# Altium footprint library PcbLib1.PcbLib: 15 footprints
Each footprint in its own frame and in the unit in brackets; x right, y up, seen from the top. Pads: shape width x height; smd on the part's side, far side on the other; paste and mask are expansions set on the pad; w line width, h text height; cw(c..) or ccw(c..) is an arc to the next point about the centre after c.
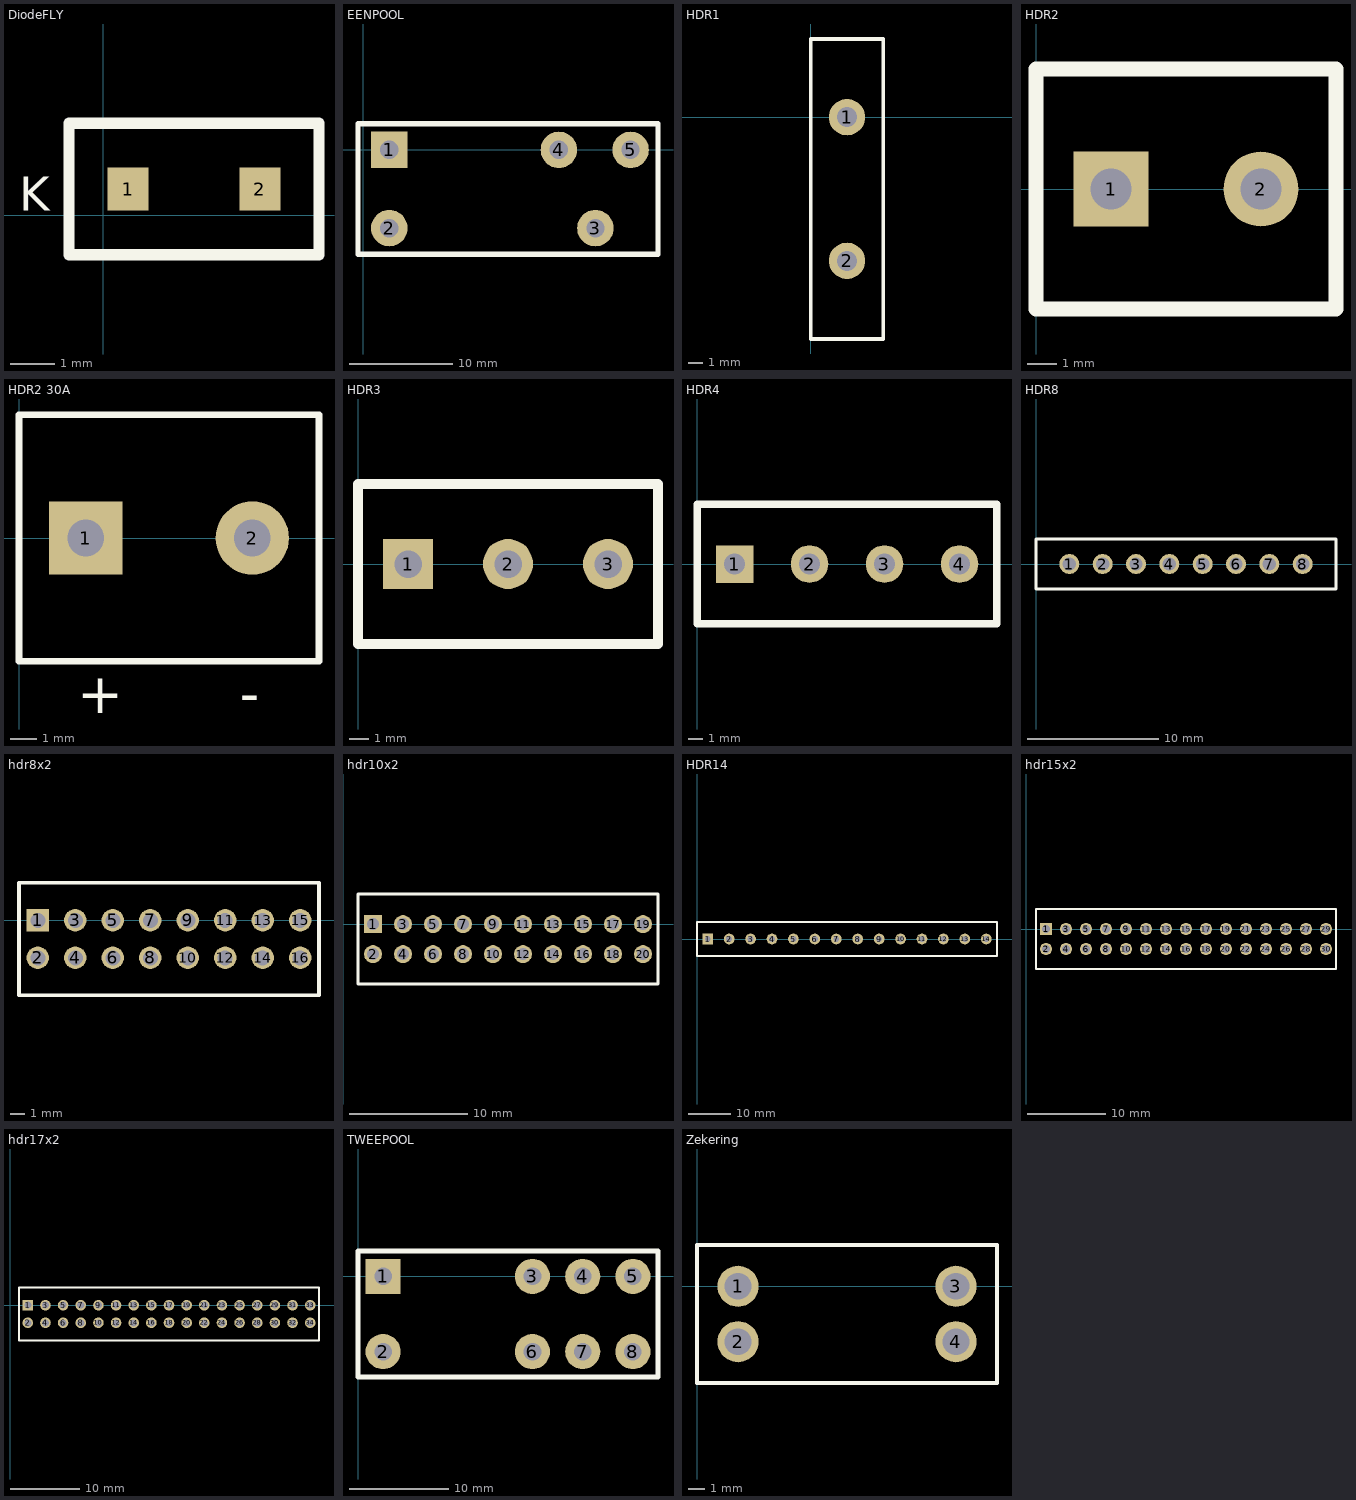
[diagram p0: the footprints below, top view; thin cyan lines are the x and y axes]

## DiodeFLY [mil]
pads (2):
  rect 36x38 smd: 1(22,23) 2(138,23)
Top Overlay:
  lines w10: 2,81 108,81 190,81 190,59 190,0 190,-35 -1,-35 -30,-35 -30,0 -30,59 -30,81 9,81
  text "K" at -74,4 h30

## EENPOOL [mil]
pads (5):
  rect 140x140 hole 70: 1(100,0)
  round 140 hole 70: 2(100,-300) 3(890,-300) 4(750,0) 5(1025,0)
Top Overlay:
  lines w20: -20,-400 -20,100 1130,100 1130,-400 -20,-400

## HDR1 [mil]
pads (2):
  round 100 hole 55: 1(100,0) 2(100,-395)
Top Overlay:
  lines w10: 0,-610 0,0 0,215 200,215 200,-610 0,-610

## HDR2 [mil]
pads (2):
  rect 100x100 hole 55: 1(100,0)
  round 100 hole 55: 2(300,0)
Top Overlay:
  lines w20: 0,-160 400,-160 400,160 0,160 0,-160

## HDR2 30A [mil]
pads (2):
  rect 110x110 hole 55: 1(100,0)
  round 110 hole 55: 2(350,0)
Top Overlay:
  lines w10: 0,-185 0,1 0,185 450,185 450,-185 0,-185
  text "+" at 87,-263 h60
  text "-" at 331,-263 h60

## HDR3 [mil]
pads (3):
  rect 100x100 hole 55: 1(100,0)
  round 100 hole 55: 2(300,0) 3(500,0)
Top Overlay:
  lines w20: 0,-160 0,160 600,160 600,-160 0,-160

## HDR4 [mil]
pads (4):
  rect 100x100 hole 55: 1(100,0)
  round 100 hole 55: 2(300,0) 3(500,0) 4(700,0)
Top Overlay:
  lines w20: 0,-160 0,160 800,160 800,-160 0,-160

## HDR8 [mil]
pads (8):
  round 60 hole 40: 1(100,0) 2(200,0) 3(300,0) 4(400,0) 5(500,0) 6(600,0) 7(700,0) 8(800,0)
Top Overlay:
  lines w10: 0,-75 0,0 0,75 900,75 900,-75 0,-75

## hdr8x2 [mil]
pads (16):
  rect 60x60 hole 40: 1(100,0)
  round 60 hole 40: 2(100,-100) 3(200,0) 4(200,-100) 5(300,0) 6(300,-100) 7(400,0) 8(400,-100) 9(500,0) 10(500,-100) 11(600,0) 12(600,-100) 13(700,0) 14(700,-100) 15(800,0) 16(800,-100)
Top Overlay:
  lines w10: 50,-200 850,-200 850,100 50,100 50,-50 50,-200

## hdr10x2 [mil]
pads (20):
  rect 60x60 hole 40: 1(100,0)
  round 60 hole 40: 2(100,-100) 3(200,0) 4(200,-100) 5(300,0) 6(300,-100) 7(400,0) 8(400,-100) 9(500,0) 10(500,-100) 11(600,0) 12(600,-100) 13(700,0) 14(700,-100) 15(800,0) 16(800,-100) 17(900,0) 18(900,-100) 19(1000,0) 20(1000,-100)
Top Overlay:
  lines w10: 50,-200 50,-50 50,101 1050,101 1050,-200 50,-200

## HDR14 [mil]
pads (14):
  rect 100x100 hole 55: 1(100,0)
  round 100 hole 55: 2(300,0) 3(500,0) 4(700,0) 5(900,0) 6(1100,0) 7(1300,0) 8(1500,0) 9(1700,0) 10(1900,0) 11(2100,0) 12(2300,0) 13(2500,0) 14(2700,0)
Top Overlay:
  lines w20: 0,-160 2800,-160 2800,160 0,160 0,-160

## hdr15x2 [mil]
pads (30):
  rect 60x60 hole 40: 1(100,0)
  round 60 hole 40: 2(100,-100) 3(200,0) 4(200,-100) 5(300,0) 6(300,-100) 7(400,0) 8(400,-100) 9(500,0) 10(500,-100) 11(600,0) 12(600,-100) 13(700,0) 14(700,-100) 15(800,0) 16(800,-100) 17(900,0) 18(900,-100) 19(1000,0) 20(1000,-100) 21(1100,0) 22(1100,-100) 23(1200,0) 24(1200,-100) 25(1300,0) 26(1300,-100) 27(1400,0) 28(1400,-100) 29(1500,0) 30(1500,-100)
Top Overlay:
  lines w10: 50,-200 50,-50 50,100 1550,100 1550,-200 50,-200

## hdr17x2 [mil]
pads (34):
  rect 60x60 hole 40: 1(100,0)
  round 60 hole 40: 2(100,-100) 3(200,0) 4(200,-100) 5(300,0) 6(300,-100) 7(400,0) 8(400,-100) 9(500,0) 10(500,-100) 11(600,0) 12(600,-100) 13(700,0) 14(700,-100) 15(800,0) 16(800,-100) 17(900,0) 18(900,-100) 19(1000,0) 20(1000,-100) 21(1100,0) 22(1100,-100) 23(1200,0) 24(1200,-100) 25(1300,0) 26(1300,-100) 27(1400,0) 28(1400,-100) 29(1500,0) 30(1500,-100) 31(1600,0) 32(1600,-100) 33(1700,0) 34(1700,-100)
Top Overlay:
  lines w10: 50,-200 50,-50 50,100 1750,100 1750,-200 50,-200

## TWEEPOOL [mil]
pads (8):
  rect 140x140 hole 70: 1(100,0)
  round 140 hole 70: 2(100,-300) 3(695,0) 4(895,0) 5(1095,0) 6(695,-300) 7(895,-300) 8(1095,-300)
Top Overlay:
  lines w20: 0,-400 0,100 1195,100 1195,-400 0,-400

## Zekering [mil]
pads (4):
  round 100 hole 65: 1(100,0) 2(100,-135) 3(630,0) 4(630,-135)
Top Overlay:
  lines w10: 0,-235 730,-235 730,100 0,100 0,0 0,-235